# EAGLE library part SN74HC14-* (library DAC)
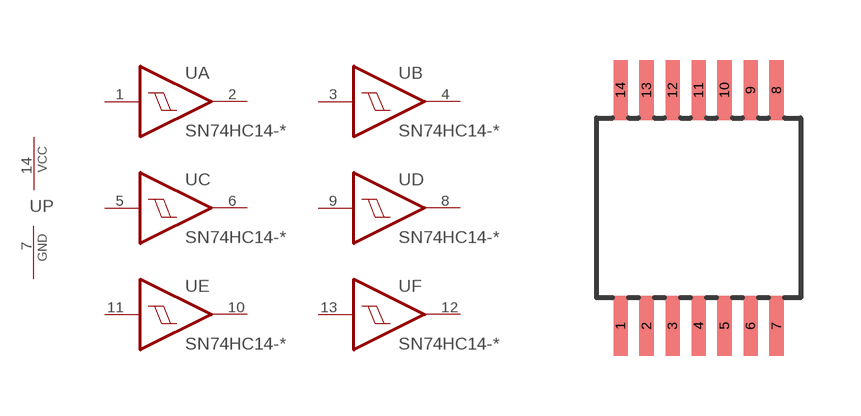
[diagram p17: symbol with the pads of TSSOP14; footprint TSSOP14]

Designator prefix U; gates A=HEXSCHMITTINVERTER B=HEXSCHMITTINVERTER C=HEXSCHMITTINVERTER D=HEXSCHMITTINVERTER E=HEXSCHMITTINVERTER F=HEXSCHMITTINVERTER P=PWR

## SN74HC14-PW  [TSSOP14]
1  A:I  in
2  A:O  out
3  B:I  in
4  B:O  out
5  C:I  in
6  C:O  out
7  P:GND  pwr
8  D:O  out
9  D:I  in
10  E:O  out
11  E:I  in
12  F:O  out
13  F:I  in
14  P:VCC  pwr

## Footprint TSSOP14 (pad centres in mm)
smd 0.35 x 1.5: 1 -1.95,-2.95; 2 -1.3,-2.95; 3 -0.65,-2.95; 4 0,-2.95; 5 0.65,-2.95; 6 1.3,-2.95; 7 1.95,-2.95; 8 1.95,2.95; 9 1.3,2.95; 10 0.65,2.95; 11 0,2.95; 12 -0.65,2.95; 13 -1.3,2.95; 14 -1.95,2.95